# EAGLE library part DC_DC_TRACO (library lbm)
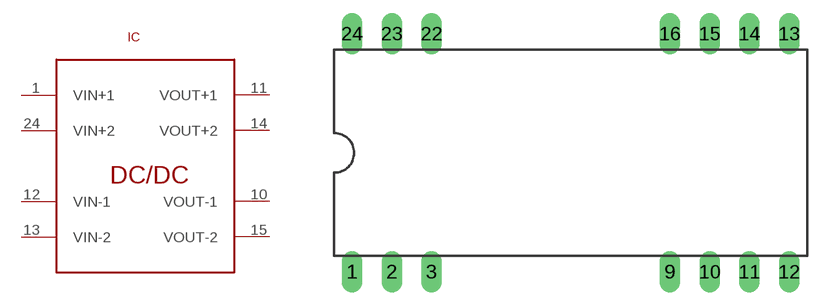
[diagram p6: symbol with the pads of DIL_TRACO_DCDC; footprint DIL_TRACO_DCDC]

Designator prefix IC

## DC_DC_TRACO  [DIL_TRACO_DCDC]
1  VIN+1
10  VOUT-1
11  VOUT+1
12  VIN-1
13  VIN-2
14  VOUT+2
15  VOUT-2
24  VIN+2

## Footprint DIL_TRACO_DCDC (pad centres in mm)
drill 0.813 long: 1 -13.97,-7.62; 2 -11.43,-7.62; 3 -8.89,-7.62; 9 6.35,-7.62; 10 8.89,-7.62; 11 11.43,-7.62; 12 13.97,-7.62; 13 13.97,7.62; 14 11.43,7.62; 15 8.89,7.62; 16 6.35,7.62; 22 -8.89,7.62; 23 -11.43,7.62; 24 -13.97,7.62